# Altium schematic symbol library Inductors Wirewound.SchLib: 7 symbols
Pins are listed as number, name and electrical type; pins without a type are passive.

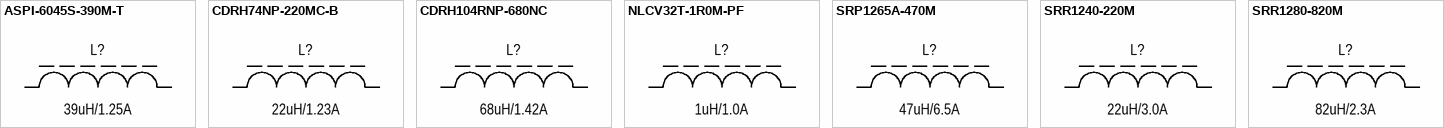
[diagram p0: symbols ASPI-6045S-390M-T to SRR1280-820M]

## ASPI-6045S-390M-T
designator L?, comment 39uH/1.25A
INDW 39uH 1.25A 6.0x6.0x4.5mm; Manufacturer: Abracon LLC; Part name: ASPI-6045S-390M-T; Group: Discrete; Tolerance: ±20%; Shielding: Shielded; Type: Wirewound; Core material: Ferrite; DC resistance: 180 mOhm; Component: Inductor Fixed; Current saturation: 1.5A; Current rating: 1.25A; Package: INDW6.0x6.0x4.5; Height: 4.50mm; Dimension: 6.00mm x 6.00mm; Operating temperature: -40°C +125°C; Inductance: 39uH; Mounting type: Surface mount
footprint INDW6.0x6.0x4.5 (Footprint not found)
pins: 1, 2

## CDRH74NP-220MC-B
designator L?, comment 22uH/1.23A
INDW 22uH 1.23A 7.3x7.3x4.5; Manufacturer: Sumida; Part name: CDRH74NP-220MC-B; Group: Discrete; Tolerance: ±20%; Shielding: Shielded; Type: Wirewound; Core material: Ferrite; DC resistance: 110 mOhm; Component: Inductor Fixed; Current rating: 1.23A; Package: INDW7.3x7.3x4.5; Height: 4.50mm; Dimension: 7.30mm x 7.30mm; Operating temperature: -40°C +105°C; Inductance: 22uH; Mounting type: Surface mount
footprint INDW7.3x7.3x4.5
pins: 1, 2

## CDRH104RNP-680NC
designator L?, comment 68uH/1.42A
INDW 68uH 1.42A 10.2x10.0x4; Manufacturer: Sumida; Part name: CDRH104RNP-680NC; Group: Discrete; Tolerance: ±30%; Shielding: Shielded; Type: Wirewound; Core material: Ferrite; DC resistance: 213 mOhm; Component: Inductor Fixed; Current saturation: 1.50A; Current rating: 1.42A; Package: INDW10.2x10.0x4.0; Height: 4.00mm; Dimension: 10.20mm x 10.00mm; Operating temperature: -40°C +100°C; Inductance: 68uH; Mounting type: Surface mount
footprint INDW10.2x10.0x4.0
pins: 1, 2

## NLCV32T-1R0M-PF
designator L?, comment 1uH/1.0A
INDW 1uH 1.0A 1210(3225); Manufacturer: TDK; Part name: NLCV32T-1R0M-PF; Group: Discrete; Q/Frequency: 10/7.96MHz; Tolerance: ±20%; Self resonant frequency: 100MHz; Shielding: Unshielded; Type: Wirewound; Core material: Ferrite; DC resistance: 78mOhm; Component: Inductor Fixed; Current rating: 1.0A; Package: 1210 (3225); Height: 2.40mm; Dimension: 3.20mm x 2.50mm; Operating temperature: -40°C +105°C; Inductance: 1uH; Mounting type: Surface mount
footprint INDW3225 (Body 3.2x2.5mm)
pins: 1, 2

## SRP1265A-470M
designator L?, comment 47uH/6.5A
INDW 47uH 6.5A 13.5x12.5; Manufacturer: Bourns; Part name: SRP1265A-470M; Group: Discrete; Q/Frequency: 20/100kHz; Tolerance: ±20%; Self resonant frequency: 100kHz; Shielding: Shielded; Type: Wirewound; Core material: Carbonyl Powder; DC resistance: 90 mOhm; Component: Inductor Fixed; Current saturation: 9.5A; Current rating: 6.5A; Package: 13.5x12.5; Height: 6.40mm; Dimension: 13.50mm x 12.50mm; Operating temperature: -40°C +105°C; Inductance: 47uH; Mounting type: Surface mount
footprint INDW13.5X12.5
pins: 1, 2

## SRR1240-220M
designator L?, comment 22uH/3.0A
INDW 22uH 3.0A 12.5x12.5; Manufacturer: Sumida; Part name: SRR1240-220M; Group: Discrete; Q/Frequency: 18/2.52MHz; Tolerance: ±20%; Self resonant frequency: 16MHz; Shielding: Shielded; Type: Wirewound; Core material: Ferrite; DC resistance: 67.5 mOhm; Component: Inductor Fixed; Current saturation: 2.6A; Current rating: 3.0A; Package: INDW12.5x12.5x4.5; Height: 4.50mm; Dimension: 12.50mm x 12.50mm; Operating temperature: -40°C +105°C; Inductance: 22uH; Mounting type: Surface mount
footprint INDW12.5x12.5x4.5
pins: 1, 2

## SRR1280-820M
designator L?, comment 82uH/2.3A
INDW 82uH 2.3A 12.5x12.5; Manufacturer: Bourns; Part name: SRR1280-820M; Group: Discrete; Q/Frequency: 20/796kHz; Tolerance: ±20%; Self resonant frequency: 5MHz; Shielding: Shielded; Type: Wirewound; Core material: Ferrite; DC resistance: 130 mOhm; Component: Inductor Fixed; Current saturation: 2.2A; Current rating: 2.3A; Package: INDW12.5x12.5x8.0; Height: 8.00mm; Dimension: 12.50mm x 12.50mm; Operating temperature: -40°C +105°C; Inductance: 82uH; Mounting type: Surface mount
footprint INDW12.5x12.5x4.5
pins: 1, 2